# Altium footprint library LiyaoPCB库.PcbLib: 63 footprints (part 4 of 4)
Each footprint in its own frame and in the unit in brackets; x right, y up, seen from the top. Pads: shape width x height; smd on the part's side, far side on the other; paste and mask are expansions set on the pad; w line width, h text height; cw(c..) or ccw(c..) is an arc to the next point about the centre after c.
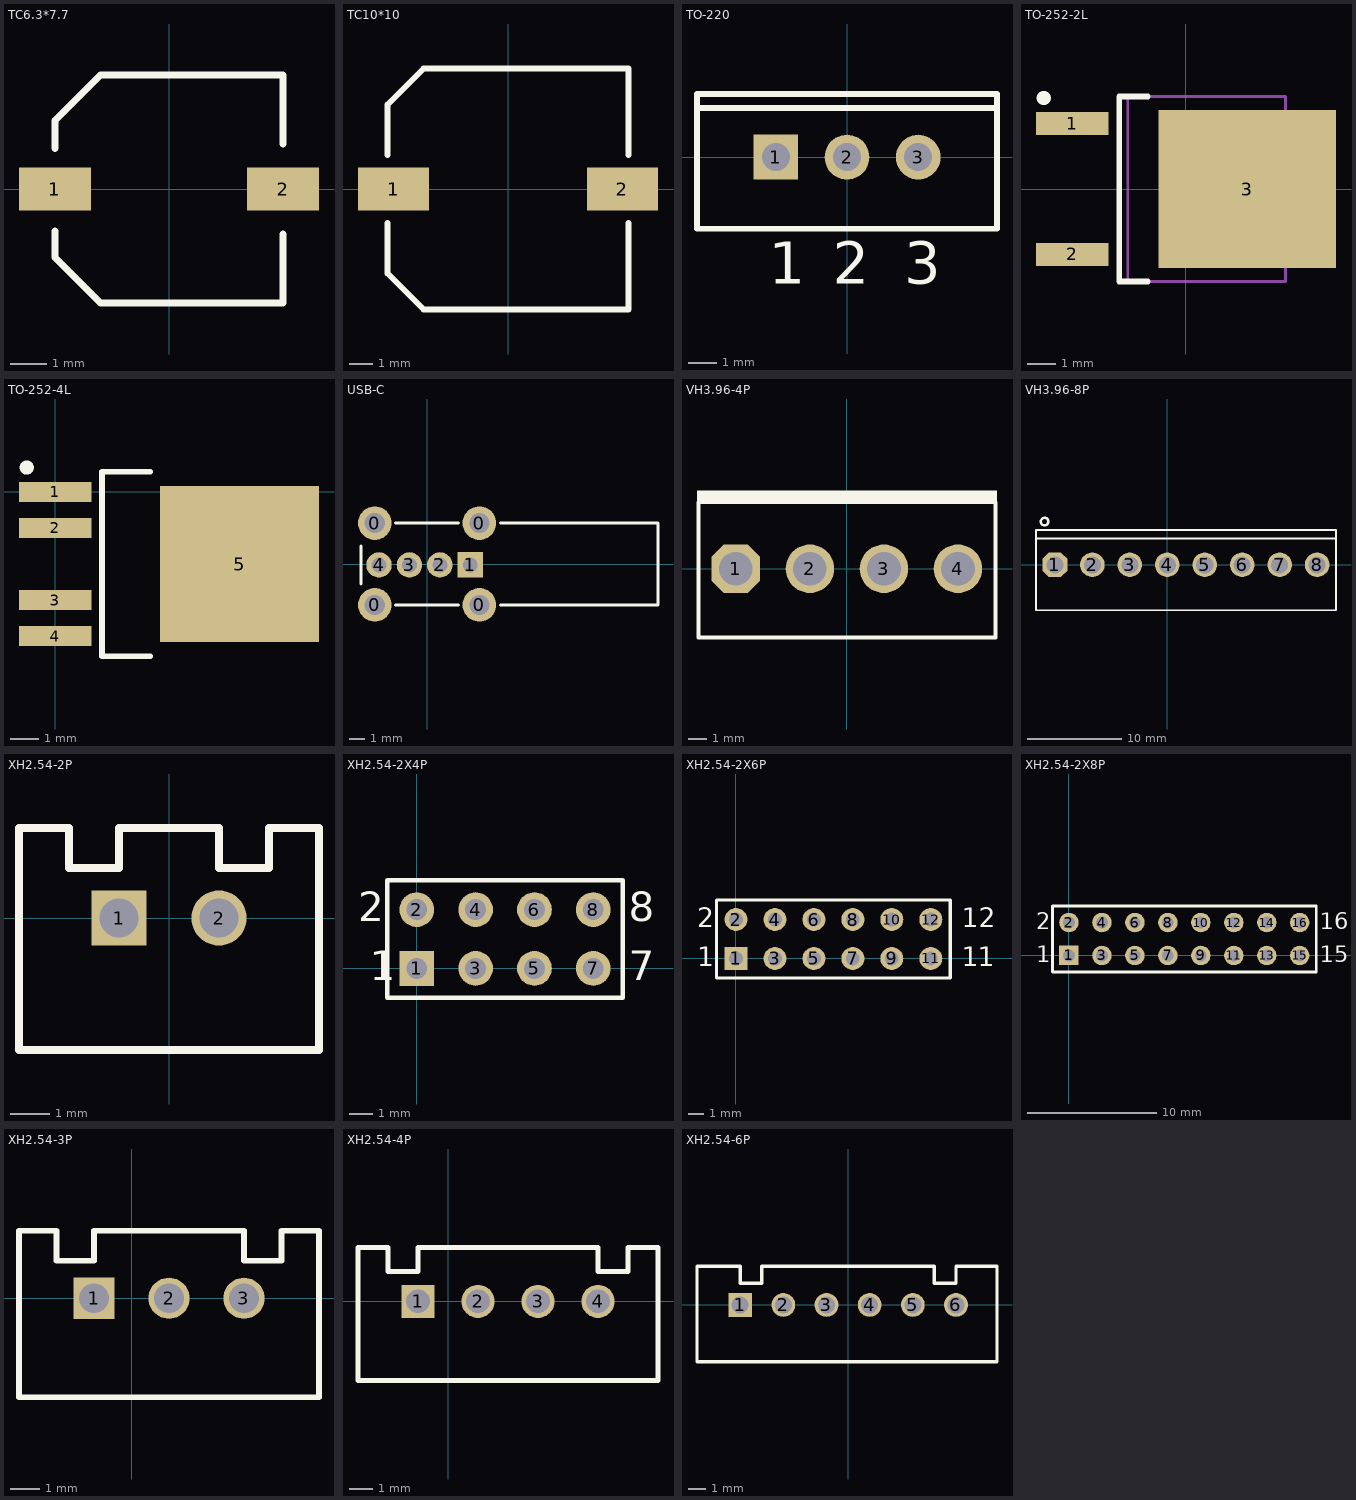
[diagram p3: the footprints below, top view; thin cyan lines are the x and y axes]

## TC6.3*7.7 [mm]
height 0.65
pads (2):
  rect 2x1.2 smd: 1(-3.175,0) 2(3.175,0)
Top Overlay:
  lines w0.2: -3.175,-1.175 -3.175,-1.905 -1.905,-3.175 3.175,-3.175 3.175,-1.25 ; -3.175,1.125 -3.175,1.905 -1.905,3.175 3.175,3.175 3.175,1.25

## TC10*10 [mm]
height 0.65
pads (2):
  rect 3x1.8 smd: 1(-4.826,0) 2(4.826,0)
Top Overlay:
  lines w0.254: -5.08,-1.425 -5.08,-3.556 -3.556,-5.08 5.08,-5.08 5.08,-1.425 ; -5.08,1.425 -5.08,3.556 -3.556,5.08 5.08,5.08 5.08,1.425

## TO-220 [mm] "TO, Thru-Hole, Vertical, Heatsink Mounted; 3 In-Line Leads; Pitch 2.54 mm"
height 19.1
pads (3):
  rect 1.6x1.6 hole 1: 1(-2.54,0)
  round 1.6 hole 1: 2(0,0) 3(2.54,0)
Top Overlay:
  lines w0.2: -5.35,1.75 5.35,1.75 ; -5.35,-2.55 -5.35,2.25 5.35,2.25 5.35,-2.55 -5.35,-2.55
  text "3" at 2.04,-4.525 h1.5
  text "2" at -0.5,-4.525 h1.5
  text "1" at -2.79,-4.525 h1.5

## TO-252-2L [mm]
pads (3):
  rect 2.55x0.8 smd: 1(-4,2.3) 2(-4,-2.3)
  rect 6.25x5.55 smd: 3(2.15,0)
Top Overlay:
  circle w0.25: c-5,3.2 r0.125
  lines w0.2: -1.35,-3.25 -2.35,-3.25 -2.35,3.25 -1.35,3.25
Mechanical 15:
  lines w0.1: 3.5,-2.668 3.946,-2.668 4.85,-1.666 4.85,1.666 3.946,2.668 3.5,2.668 ; -2.05,-3.25 -2.05,3.25 3.5,3.25 3.5,-3.25 -2.05,-3.25

## TO-252-4L [mm]
pads (5):
  rect 2.55x0.7 smd: 1(0,0) 2(0,-1.27) 3(0,-3.81) 4(0,-5.08)
  rect 5.6x5.5 smd: 5(6.5,-2.54)
Top Overlay:
  circle w0.25: c-1,0.86 r0.125
  lines w0.2: 3.35,-5.79 1.65,-5.79 1.65,0.71 3.35,0.71

## USB-C [mm]
height 0.65
pads (8):
  round 2.25 hole 1.35: 0(-3.492,-2.73) 0(-3.492,2.73) 0(3.492,-2.73) 0(3.492,2.73)
  rect 1.7x1.7 hole 1: 1(2.883,-0.064)
  round 1.7 hole 1: 2(0.851,-0.064) 3(-1.181,-0.064) 4(-3.213,-0.064)
Top Overlay:
  lines w0.2: -4.425,-1.34 -4.425,1.2 ; -2.095,-2.73 2.095,-2.73 ; -2.095,2.73 2.095,2.73 ; 4.889,-2.73 15.43,-2.73 15.43,2.73 4.889,2.73

## VH3.96-4P [mm]
pads (4):
  oct 2.6x2.6 hole 1.8: 1(-5.94,0)
  round 2.6 hole 1.8: 2(-1.98,0) 3(1.98,0) 4(5.94,0)
Top Overlay:
  rectangle: -8.023,3.556 8.03,4.191
  lines w0.2: -7.947,-3.683 7.954,-3.683 7.954,3.556 -7.947,3.556 -7.947,-3.683

## VH3.96-8P [mm]
pads (8):
  oct 2.6x2.6 hole 1.8: 1(-11.88,0)
  round 2.6 hole 1.8: 2(-7.92,0) 3(-3.96,0) 4(0,0) 5(3.96,0) 6(7.92,0) 7(11.88,0) 8(15.84,0)
Top Overlay:
  circle w0.254: c-12.975,4.572 r0.402
  lines w0.2: -13.887,2.794 17.84,2.794 ; -13.887,-4.8 -13.887,3.7 17.84,3.7 17.84,-4.8 -13.887,-4.8

## XH2.54-2P [mm]
pads (2):
  rect 1.4x1.4 hole 1: 1(-1.27,0)
  round 1.4 hole 1: 2(1.27,0)
Top Overlay:
  lines w0.2: 2.921,2.286 3.81,2.286 ; 3.81,-3.353 -3.81,-3.353 -3.81,-1.27 -3.81,2.286 -2.54,2.286 -2.54,1.27 -1.27,1.27 -1.27,2.286 1.27,2.286 1.27,1.27 2.54,1.27 2.54,2.286 3.81,2.286 ; 3.81,-3.302 3.81,2.286

## XH2.54-2X4P [mm] "2.54间距 2X4P"
height 0.65
pads (8):
  rect 1.5x1.5 hole 0.9: 1(0,0)
  round 1.5 hole 0.9: 2(0,2.54) 3(2.54,0) 4(2.54,2.54) 5(5.08,0) 6(5.08,2.54) 7(7.62,0) 8(7.62,2.54)
Top Overlay:
  lines w0.2: -1.27,-1.27 -1.27,3.81 8.89,3.81 8.89,-1.27 -1.27,-1.27
  text "8" at 9.144,2.032 h1.27
  text "7" at 9.144,-0.508 h1.27
  text "1" at -2.032,-0.508 h1.27
  text "2" at -2.54,2.032 h1.27

## XH2.54-2X6P [mm] "XH2.54 2X6P"
height 0.65
pads (12):
  rect 1.5x1.5 hole 0.9: 1(0,0)
  round 1.5 hole 0.9: 2(0,2.54) 3(2.54,0) 4(2.54,2.54) 5(5.08,0) 6(5.08,2.54) 7(7.62,0) 8(7.62,2.54) 9(10.16,0) 10(10.16,2.54) 11(12.7,0) 12(12.7,2.54)
Top Overlay:
  lines w0.2: -1.27,-1.27 -1.27,3.81 13.97,3.81 13.97,-1.27 -1.27,-1.27
  text "2" at -2.54,2.032 h1.27
  text "1" at -2.54,-0.508 h1.27
  text "1" at 14.732,-0.508 h1.27
  text "1" at 15.748,-0.508 h1.27
  text "12" at 14.732,2.032 h1.27

## XH2.54-2X8P [mm] "XH2.54-2X8P"
height 0.65
pads (16):
  rect 1.5x1.5 hole 0.9: 1(0,0)
  round 1.5 hole 0.9: 2(0,2.54) 3(2.54,0) 4(2.54,2.54) 5(5.08,0) 6(5.08,2.54) 7(7.62,0) 8(7.62,2.54) 9(10.16,0) 10(10.16,2.54) 11(12.7,0) 12(12.7,2.54) 13(15.24,0) 14(15.24,2.54) 15(17.78,0) 16(17.78,2.54)
Top Overlay:
  lines w0.2: -1.27,-1.27 -1.27,3.81 19.05,3.81 19.05,-1.27 -1.27,-1.27
  text "2" at -2.54,2.032 h1.27
  text "1" at -2.54,-0.508 h1.27
  text "15" at 19.304,-0.508 h1.27
  text "16" at 19.304,2.032 h1.27

## XH2.54-3P [mm]
pads (3):
  rect 1.4x1.4 hole 1: 1(-1.27,0)
  round 1.4 hole 1: 2(1.27,0) 3(3.81,0)
Top Overlay:
  lines w0.2: 3.8,2.286 -1.27,2.286 -1.27,1.27 -2.54,1.27 -2.54,2.286 -3.81,2.286 -3.81,-1.27 -3.81,-3.353 6.35,-3.353 ; 3.81,2.286 3.81,1.27 5.08,1.27 5.08,2.286 6.35,2.286 ; 5.461,2.286 6.35,2.286 ; 6.35,-3.302 6.35,2.286

## XH2.54-4P [mm]
pads (4):
  rect 1.4x1.4 hole 1: 1(-1.27,0)
  round 1.4 hole 1: 2(1.27,0) 3(3.81,0) 4(6.35,0)
Top Overlay:
  lines w0.2: -1.27,-3.353 8.89,-3.353 ; -1.27,2.286 -1.27,1.27 -2.54,1.27 -2.54,2.286 -3.81,2.286 -3.81,-1.27 -3.81,-3.353 6.35,-3.353 ; -1.25,2.286 6.35,2.286 6.35,1.27 7.62,1.27 7.62,2.286 8.89,2.286 ; 8.001,2.286 8.89,2.286 ; 8.89,-3.302 8.89,2.286

## XH2.54-6P [mm]
pads (6):
  rect 1.4x1.4 hole 1: 1(-6.35,0)
  round 1.4 hole 1: 2(-3.81,0) 3(-1.27,0) 4(1.27,0) 5(3.81,0) 6(6.35,0)
Top Overlay:
  lines w0.2: -8.89,-3.353 8.763,-3.353 8.763,2.286 6.35,2.286 6.35,1.27 5.08,1.27 5.08,2.286 -5.08,2.286 -5.08,1.27 -6.35,1.27 -6.35,2.286 -8.89,2.286 -8.89,-1.27 -8.89,-3.353